# EAGLE library part LM7480*QDRRRQ1 (library LM740(x)-Q1)
LM7480-Q1 <https://www.ti.com/product/LM7480-Q1> Ideal Diode Controller with Load Dump Protection AEC-Q100 qualified for automotive applications Device temperature grade 1: -40°C to +125°C ambient operating temperature range Device HBM ESD classification level 2 Device CDM ESD classification level C4B 3-V to 65-V input range Reverse input protection down to –65 V Drives external back-to-back N-Channel MOSFETs in common drain and common source configurations Ideal diode operation with 10.5-mV A to C forward voltage drop regulation (LM74800-Q1) Low reverse detection threshold (–4.5 mV) with fast response (0.5 μs) 20-mA peak gate (DGATE) turnon current 2.6-A peak DGATE turnoff current Adjustable overvoltage protection Low 2.87-μA shutdown current (EN/UVLO=Low) Meets automotive ISO7637 transient requirements with a suitable TVS diode Available in space saving 12-Pin WSON package Datasheet <https://www.ti.com/lit/gpn/lm7480-q1>
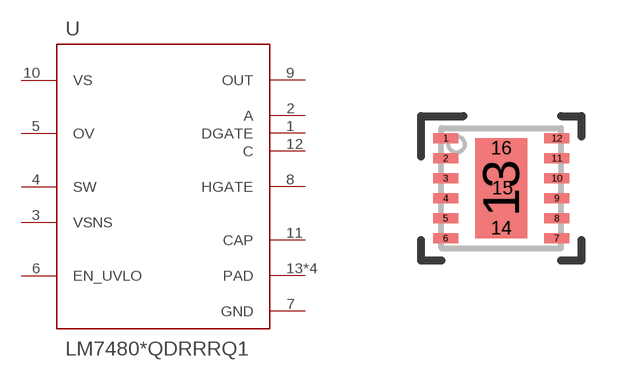
[diagram p0: symbol with the pads of DRR0012E; footprint DRR0012E]

Designator prefix U

## LM74800QDRRRQ1 (EN_UVLO: YES; LINEAR_CONTROL: YES - 10.5 mV FWD Volt Drop; LOW_IQ: YES - 2.8 uA; OP_TEMP: -40 to +125 C; PN: LM74800QDRRRQ1; REV_I_PROT: YES; REV_V_PROT: YES; VALUE: LM74800QDRRRQ1; VDC_INPUT: 3.0 V to 65.0 V), LM74801QDRRRQ1 (EN_UVLO: YES; LINEAR_CONTROL: NO; LOW_IQ: YES - 2.8 uA; OP_TEMP: -40 to +125 C; PN: LM74801QDRRRQ1; REV_I_PROT: YES; REV_V_PROT: YES; VALUE: LM74801QDRRRQ1; VDC_INPUT: 3.0 V to 65.0 V)  [DRR0012E]
1  DGATE  out
2  A  pas
3  VSNS  in
4  SW  in
5  OV  in
6  EN_UVLO  in
7  GND  pwr
8  HGATE  out
9  OUT  pas
10  VS  pwr
11  CAP  pas
12  C  pas
13  PAD  pas
14  PAD  pas
15  PAD  pas
16  PAD  pas

## Footprint DRR0012E (pad centres in mm)
smd 0.62 x 0.25: 1 -1.39,1.25; 2 -1.39,0.75; 3 -1.39,0.25; 4 -1.39,-0.25; 5 -1.39,-0.75; 6 -1.39,-1.25; 7 1.39,-1.25; 8 1.39,-0.75; 9 1.39,-0.25; 10 1.39,0.25; 11 1.39,0.75; 12 1.39,1.25
smd 1.3 x 2.5: 13 0,0
smd 0.5 x 0.5: 14 0,-1; 15 0.025,0; 16 0,1